# Altium schematic symbol library MaximIntegrated.SchLib: 1 symbol
Pins are listed as number, name and electrical type; pins without a type are passive.

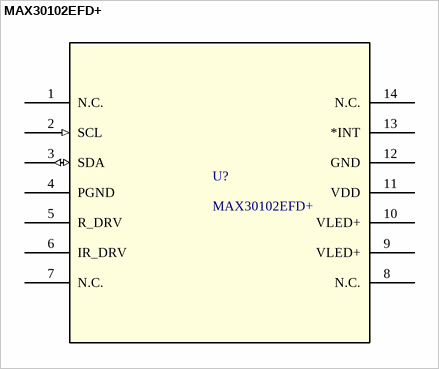
[diagram p0: symbol MAX30102EFD+]

## MAX30102EFD+
designator U?
IC SENSOR OXIMETER/HEARTRATE; Manufacturer: Maxim; Min Supply Voltage: 1.7V; Max Supply Voltage: 2V; Supplier 1: Digi-Key; Manufacturer Part Number: MAX30102EFD+; RoHS: Yes; Category: Decoders, Multiplexers; Stock 1: 798; Pricing 1: 1=9.76000, 10=8.81500, 25=8.40520, 100=7.29800, 500=6.35500, 1000=5.53500 (USD); Number of Pins: 14; Min Operating Temperature: -40°C; Max Operating Temperature: 85°C; REACH SVHC: No SVHC; ComponentLink1URL: http://www.farnell.com/datasheets/2162814.pdf?src-supplier=Farnell; ComponentLink1Description: http://www.farnell.com/datasheets/2162814.pdf?src-supplier=Farnell; ComponentLink2URL: http://www.farnell.com/datasheets/2162814.pdf?src-supplier=Element14; ComponentLink2Description: http://www.farnell.com/datasheets/2162814.pdf?src-supplier=Element14; ComponentLink3URL: https://datasheets.maximintegrated.com/en/ds/MAX30102.pdf?src-supplier=Digi-Key; ComponentLink3Description: https://datasheets.maximintegrated.com/en/ds/MAX30102.pdf?src-supplier=Digi-Key; Supplier Part Number 1: MAX30102EFD+-ND
footprint 21-0880B
footprint 21-0880B-L
footprint 21-0880B-M
pins: 1 N.C., 2 SCL (in), 3 SDA (io), 4 PGND (power), 5 R_DRV, 6 IR_DRV, 7 N.C., 8 N.C., 9 VLED+, 10 VLED+, 11 VDD (power), 12 GND (power), 13 *INT, 14 N.C.